# Altium footprint library 6032.PcbLib: 1 footprints
Each footprint in its own frame and in the unit in brackets; x right, y up, seen from the top. Pads: shape width x height; smd on the part's side, far side on the other; paste and mask are expansions set on the pad; w line width, h text height; cw(c..) or ccw(c..) is an arc to the next point about the centre after c.
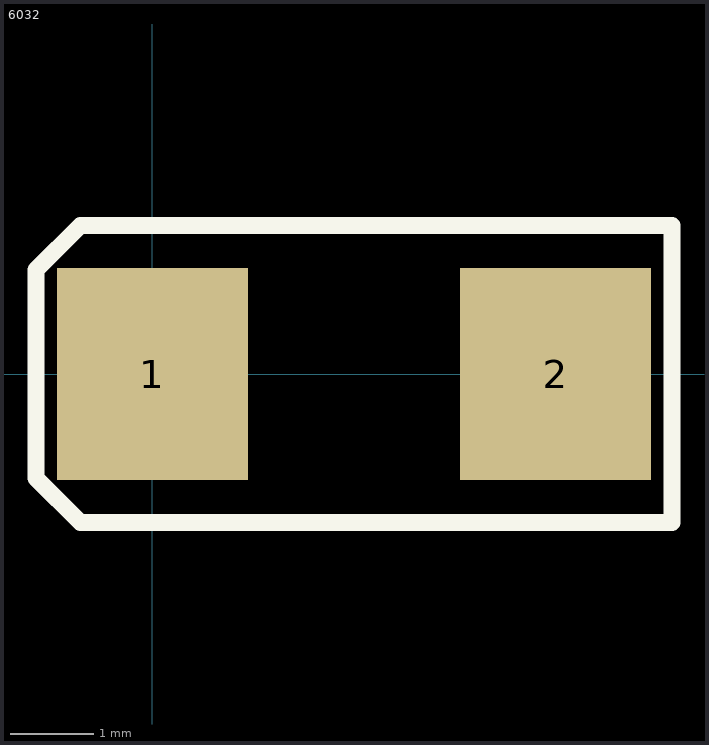
[diagram p0: the footprint, top view; thin cyan lines are the x and y axes]

## 6032 [mil]
height 98.43
pads (2):
  rect 90x100 smd: 1(0,0) 2(190,0)
TopOverlay:
  lines w8: -55,-49 -34,-70 245,-70 245,70 -34,70 -55,49 -55,-49
3D body: height 110.7, standoff 0.6, extent -28.37,-67.01 219.63,68.99